# Altium schematic symbol library 84981-4.SchLib: 2 symbols
Pins are listed as number, name and electrical type; pins without a type are passive.

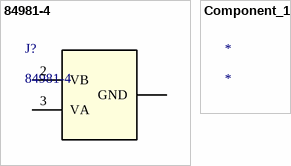
[diagram p0: symbols 84981-4 to Component_1]

## 84981-4
designator J?
4 Position FFC, FPC Connector Contacts, Top 0.039" (1.00mm) Surface Mount, Right Angle; Mfr_Name: TE Connectivity; Copyright: Copyright (C) 2023 Ultra Librarian. All rights reserved.; Manufacturer_Part_Number: 84981-4; Digi-Key_Part_Number_1: A101369CT-ND; Digi-Key_Part_Number_2: A101369DKR-ND; Digi-Key_Part_Number_3: A101369TR-ND; RefDes: RefDes; Type: DEV
footprint CONN4_84981-4
pins: 1,4 GND, 2 VB, 3 VA

## Component_1
designator *